# Altium schematic symbol library REG_3.3V_D2PAK.SchLib: 1 symbol
Pins are listed as number, name and electrical type; pins without a type are passive.

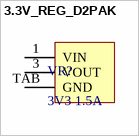
[diagram p0: symbol 3.3V_REG_D2PAK]

## 3.3V_REG_D2PAK
designator VR?, comment 3V3 1.5A
IC REG LINEAR 3.3V 1.5A D2PAK; Manufacturer: ON Semiconductor; Manufacturer Part Number: NCP565D2T33R4G; Number of Outputs: 1; Max Input Voltage: 9V; Min Input Voltage: 2.5V; Reference Voltage: 900mV; Polarity: Positive; Accuracy: 3%; Output Type: Fixed; Min Current Limit: 1.6A; Power Rating: 1.506W; Supplier 1: Mouser; RoHS: Yes; Category: Voltage Regulators - Linear; Stock 1: 45; Pricing 1: 1=2.09000, 10=1.88000, 50=1.78000, 100=1.52000, 1000=1.25000, 10000=1.25000 (USD); Mount: Surface Mount; Case/Package: D2PAK; Number of Pins: 3; Contact Plating: Tin,Matte; Min Operating Temperature: -40°C; Max Operating Temperature: 125°C; Max Output Current: 1.5A; Output Voltage: 3.3V; Packaging: Tape and Reel; Output Current: 1.5A; Package Quantity: 800; Dropout Voltage: 900mV; Number of Regulators: 1; Nominal Output Voltage: 3.3V; Output Voltage Accuracy: 3%; Series: -; Length: 10.24mm; Width: 9.347mm; Height: 4.572mm; Radiation Hardening: No; REACH SVHC: No SVHC; Lead Free: Lead Free; Halogen Free: Halogen Free; RoHS Compliant: Yes; ComponentLink1URL: https://datasheet.ciiva.com/8231/ncp565-d-8231702.pdf?src-supplier=Avnet; ComponentLink1Description: https://datasheet.ciiva.com/8231/ncp565-d-8231702.pdf?src-supplier=Avnet; ComponentLink2URL: https://datasheet.ciiva.com/29569/ncp565-d-29569517.pdf?src-supplier=Digi-Key; ComponentLink2Description: https://datasheet.ciiva.com/29569/ncp565-d-29569517.pdf?src-supplier=Digi-Key; ComponentLink3URL: https://datasheet.ciiva.com/29569/ncp565-d-29569518.pdf?src-supplier=Digi-Key; ComponentLink3Description: https://datasheet.ciiva.com/29569/ncp565-d-29569518.pdf?src-supplier=Digi-Key; ComponentLink4URL: https://datasheet.ciiva.com/29569/ncp565-d-29569519.pdf?src-supplier=Digi-Key; ComponentLink4Description: https://datasheet.ciiva.com/29569/ncp565-d-29569519.pdf?src-supplier=Digi-Key; ComponentLink5URL: https://datasheet.ciiva.com/16209/ncp565-d-16209563.pdf?src-supplier=Future+Electronics; ComponentLink5Description: https://datasheet.ciiva.com/16209/ncp565-d-16209563.pdf?src-supplier=Future+Electronics; ComponentLink6URL: https://datasheet.ciiva.com/26178/ncp565-d-26178262.pdf?src-supplier=Avnet+Europe; ComponentLink6Description: https://datasheet.ciiva.com/26178/ncp565-d-26178262.pdf?src-supplier=Avnet+Europe; Supplier Part Number 1: 863-NCP565D2T33R4G
footprint REG_3.3V_D2PAK
pins: 1 VIN, 3 VOUT, TAB GND